# Altium footprint library ICs.PcbLib: 32 footprints (part 1 of 2)
Each footprint in its own frame and in the unit in brackets; x right, y up, seen from the top. Pads: shape width x height; smd on the part's side, far side on the other; paste and mask are expansions set on the pad; w line width, h text height; cw(c..) or ccw(c..) is an arc to the next point about the centre after c.
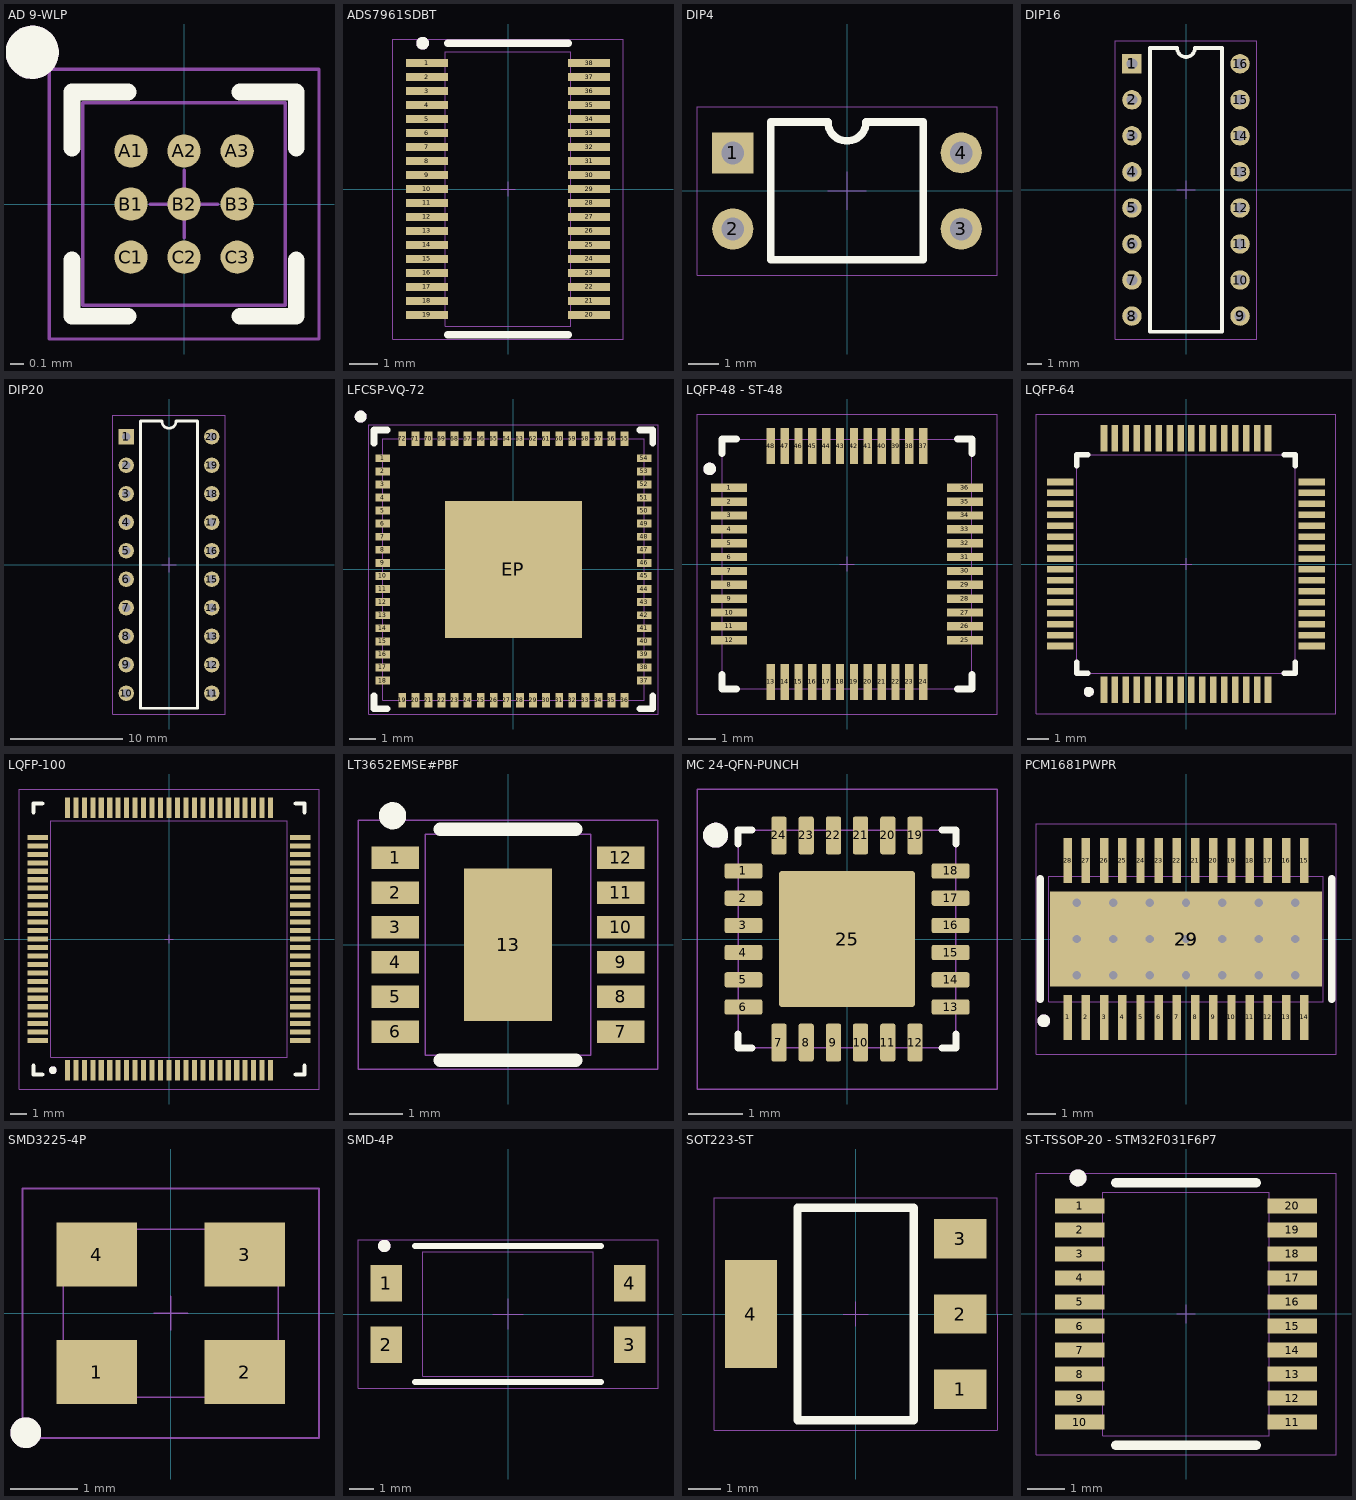
[diagram p0: the footprints below, top view; thin cyan lines are the x and y axes]

## AD 9-WLP [mm]
pads (9):
  round 0.25 smd mask+0.1: A1(-0.4,0.4) A2(0,0.4) A3(0.4,0.4) B1(-0.4,0) B2(0,0) B3(0.4,0) C1(-0.4,-0.4) C2(0,-0.4) C3(0.4,-0.4)
Top Overlay:
  circle w0.2: c-1.143,1.143 r0.1
  lines w0.127: -0.845,-0.423 -0.845,-0.845 -0.423,-0.845 ; -0.845,0.423 -0.845,0.845 -0.423,0.845 ; 0.423,-0.845 0.845,-0.845 0.845,-0.423 ; 0.423,0.845 0.845,0.845 0.845,0.423
Top Courtyard (Mech4):
  lines w0.025: -1.016,-1.016 -1.016,1.016 1.016,1.016 1.016,-1.016 -1.016,-1.016
Top Assembly:
  circle w0.2: c-1.143,1.143 r0.1
  lines w0.025: -0.254,0 0.254,0 ; 0,-0.254 0,0.254 ; -0.762,-0.762 -0.762,0.762 0.762,0.762 0.762,-0.762 -0.762,-0.762
3D body "step_temp.STEP": height 0.69, standoff 0, extent -0.734,-0.724 0.734,0.724

## ADS7961SDBT [mm]
pads (38):
  rect 1.5x0.3 smd mask+0.05: 1(-2.9,4.5) 2(-2.9,4) 3(-2.9,3.5) 4(-2.9,3) 5(-2.9,2.5) 6(-2.9,2) 7(-2.9,1.5) 8(-2.9,1) 9(-2.9,0.5) 10(-2.9,0) 11(-2.9,-0.5) 12(-2.9,-1) 13(-2.9,-1.5) 14(-2.9,-2) 15(-2.9,-2.5) 16(-2.9,-3) 17(-2.9,-3.5) 18(-2.9,-4) 19(-2.9,-4.5) 20(2.9,-4.5) 21(2.9,-4) 22(2.9,-3.5) 23(2.9,-3) 24(2.9,-2.5) 25(2.9,-2) 26(2.9,-1.5) 27(2.9,-1) 28(2.9,-0.5) 29(2.9,0) 30(2.9,0.5) 31(2.9,1) 32(2.9,1.5) 33(2.9,2) 34(2.9,2.5) 35(2.9,3) 36(2.9,3.5) 37(2.9,4) 38(2.9,4.5)
Top Overlay:
  circle w0.254: c-3.048,5.207 r0.102
  lines w0.254: -2.159,-5.207 2.159,-5.207 ; -2.159,5.207 2.159,5.207
Top Courtyard (Mech4):
  lines w0.025: -4.108,-5.358 -4.108,5.358 4.108,5.358 4.108,-5.358 -4.108,-5.358
Top Assembly:
  circle w0.254: c-3.048,5.207 r0.102
  lines w0.025: -0.254,0 0.254,0 ; 0,-0.254 0,0.254 ; -2.25,-4.9 2.25,-4.9 2.25,4.9 -2.25,4.9 -2.25,-4.9
3D body "ADS7961SDBT.STEP": height 1.2, standoff 0, extent -3.2,-4.85 3.2,4.85

## DIP4 [mil]
pads (4):
  rect 54x54 hole 30: 1(-150,50)
  round 54 hole 30: 2(-150,-50) 3(150,-50) 4(150,50)
Top Overlay:
  lines w10: -100,-90.55 -100,90.55 -25,90.55 ccw(c0,90.55) 25,90.55 100,90.55 100,-90.55 -100,-90.55
Top Courtyard (Mech4):
  lines w1: -197,-110.55 197,-110.55 197,110.55 -197,110.55 -197,-110.55
Top Assembly:
  lines w1: -25,0 25,0 ; 0,-25 0,25
3D body "FOD817C.STEP": height 173.23, standoff -129.92, extent -155.12,-90.55 155.12,90.55

## DIP16 [mil]
pads (16):
  rect 54x54 hole 30: 1(-150,350)
  round 54 hole 30: 2(-150,250) 3(-150,150) 4(-150,50) 5(-150,-50) 6(-150,-150) 7(-150,-250) 8(-150,-350) 9(150,-350) 10(150,-250) 11(150,-150) 12(150,-50) 13(150,50) 14(150,150) 15(150,250) 16(150,350)
Top Overlay:
  lines w10: -100,-393.7 100,-393.7 100,393.7 25,393.7 cw(c0,393.7) -25,393.7 -100,393.7 -100,-393.7
Top Courtyard (Mech4):
  lines w1: -197,-413.7 -197,413.7 197,413.7 197,-413.7 -197,-413.7
Top Assembly:
  lines w1: -25,0 25,0 ; 0,-25 0,25
3D body "DIP16.step": height 78.03, standoff -220, extent -153,-393.7 156.84,393.7

## DIP20 [mil]
pads (20):
  rect 54x54 hole 30: 1(-150,450)
  round 54 hole 30: 2(-150,350) 3(-150,250) 4(-150,150) 5(-150,50) 6(-150,-50) 7(-150,-150) 8(-150,-250) 9(-150,-350) 10(-150,-450) 11(150,-450) 12(150,-350) 13(150,-250) 14(150,-150) 15(150,-50) 16(150,50) 17(150,150) 18(150,250) 19(150,350) 20(150,450)
Top Overlay:
  lines w10: -100,-502.94 100,-502.94 100,504.94 25,504.94 cw(c0,504.94) -25,504.94 -100,504.94 -100,-502.94
Top Courtyard (Mech4):
  lines w1: -197,-522.94 -197,524.94 197,524.94 197,-522.94 -197,-522.94
Top Assembly:
  lines w1: -25,0 25,0 ; 0,-25 0,25
3D body "User Library-DIP20-300-metric.step": height 177.17, standoff -137.8, extent -153,-502.94 152.53,504.94

## LFCSP-VQ-72 [mm]
pads (73):
  rect 0.55x0.3 smd mask+0.05: 1(-5,4.25) 2(-5,3.75) 3(-5,3.25) 4(-5,2.75) 5(-5,2.25) 6(-5,1.75) 7(-5,1.25) 8(-5,0.75) 9(-5,0.25) 10(-5,-0.25) 11(-5,-0.75) 12(-5,-1.25) 13(-5,-1.75) 14(-5,-2.25) 15(-5,-2.75) 16(-5,-3.25) 17(-5,-3.75) 18(-5,-4.25) 37(5,-4.25) 38(5,-3.75) 39(5,-3.25) 40(5,-2.75) 41(5,-2.25) 42(5,-1.75) 43(5,-1.25) 44(5,-0.75) 45(5,-0.25) 46(5,0.25) 47(5,0.75) 48(5,1.25) 49(5,1.75) 50(5,2.25) 51(5,2.75) 52(5,3.25) 53(5,3.75) 54(5,4.25)
  rect 0.3x0.55 smd mask+0.05: 19(-4.25,-5) 20(-3.75,-5) 21(-3.25,-5) 22(-2.75,-5) 23(-2.25,-5) 24(-1.75,-5) 25(-1.25,-5) 26(-0.75,-5) 27(-0.25,-5) 28(0.25,-5) 29(0.75,-5) 30(1.25,-5) 31(1.75,-5) 32(2.25,-5) 33(2.75,-5) 34(3.25,-5) 35(3.75,-5) 36(4.25,-5) 55(4.25,5) 56(3.75,5) 57(3.25,5) 58(2.75,5) 59(2.25,5) 60(1.75,5) 61(1.25,5) 62(0.75,5) 63(0.25,5) 64(-0.25,5) 65(-0.75,5) 66(-1.25,5) 67(-1.75,5) 68(-2.25,5) 69(-2.75,5) 70(-3.25,5) 71(-3.75,5) 72(-4.25,5)
  rect 5.25x5.25 smd mask+0.05: EP(0,0)
Top Overlay:
  circle w0.254: c-5.842,5.842 r0.102
  lines w0.254: -5.334,-4.826 -5.334,-5.334 -4.826,-5.334 ; -5.334,4.826 -5.334,5.334 -4.826,5.334 ; 4.826,-5.334 5.334,-5.334 5.334,-4.826 ; 4.826,5.334 5.334,5.334 5.334,4.826
Top Courtyard (Mech4):
  lines w0.025: -5.529,-5.529 -5.529,5.529 5.529,5.529 5.529,-5.529 -5.529,-5.529
Top Assembly:
  circle w0.254: c-5.842,5.842 r0.102
  lines w0.025: -0.254,0 0.254,0 ; 0,-0.254 0,0.254 ; -5,-5 5,-5 5,5 -5,5 -5,-5
3D body "ADAU1452KCPZ.STEP": height 1, standoff 0, extent -5,-5 5,5

## LQFP-48 - ST-48 [mm]
pads (48):
  rect 1.3x0.3 smd mask+0.05: 1(-4.25,2.75) 2(-4.25,2.25) 3(-4.25,1.75) 4(-4.25,1.25) 5(-4.25,0.75) 6(-4.25,0.25) 7(-4.25,-0.25) 8(-4.25,-0.75) 9(-4.25,-1.25) 10(-4.25,-1.75) 11(-4.25,-2.25) 12(-4.25,-2.75) 25(4.25,-2.75) 26(4.25,-2.25) 27(4.25,-1.75) 28(4.25,-1.25) 29(4.25,-0.75) 30(4.25,-0.25) 31(4.25,0.25) 32(4.25,0.75) 33(4.25,1.25) 34(4.25,1.75) 35(4.25,2.25) 36(4.25,2.75)
  rect 0.3x1.3 smd mask+0.05: 13(-2.75,-4.25) 14(-2.25,-4.25) 15(-1.75,-4.25) 16(-1.25,-4.25) 17(-0.75,-4.25) 18(-0.25,-4.25) 19(0.25,-4.25) 20(0.75,-4.25) 21(1.25,-4.25) 22(1.75,-4.25) 23(2.25,-4.25) 24(2.75,-4.25) 37(2.75,4.25) 38(2.25,4.25) 39(1.75,4.25) 40(1.25,4.25) 41(0.75,4.25) 42(0.25,4.25) 43(-0.25,4.25) 44(-0.75,4.25) 45(-1.25,4.25) 46(-1.75,4.25) 47(-2.25,4.25) 48(-2.75,4.25)
Top Overlay:
  circle w0.254: c-4.953,3.429 r0.102
  lines w0.254: -4.5,-3.992 -4.5,-4.5 -3.992,-4.5 ; -4.5,3.992 -4.5,4.5 -3.992,4.5 ; 3.992,-4.5 4.5,-4.5 4.5,-3.992 ; 3.992,4.5 4.5,4.5 4.5,3.992
Top Courtyard (Mech4):
  lines w0.025: -5.408,-5.408 5.408,-5.408 5.408,5.408 -5.408,5.408 -5.408,-5.408
Top Assembly:
  circle w0.254: c-4.953,3.429 r0.102
  lines w0.025: -0.254,0 0.254,0 ; 0,-0.254 0,0.254 ; -4.5,-4.5 4.5,-4.5 4.5,4.5 -4.5,4.5 -4.5,-4.5
3D body "STM32F401CBT6.STEP": height 1.63, standoff 0.03, extent -4.5,-4.5 4.5,4.5

## LQFP-64 [mm]
pads (64):
  rect 0.3x1.2 smd mask+0.05: 1(-3.75,-5.75) 2(-3.25,-5.75) 3(-2.75,-5.75) 4(-2.25,-5.75) 5(-1.75,-5.75) 6(-1.25,-5.75) 7(-0.75,-5.75) 8(-0.25,-5.75) 9(0.25,-5.75) 10(0.75,-5.75) 11(1.25,-5.75) 12(1.75,-5.75) 13(2.25,-5.75) 14(2.75,-5.75) 15(3.25,-5.75) 16(3.75,-5.75) 33(3.75,5.75) 34(3.25,5.75) 35(2.75,5.75) 36(2.25,5.75) 37(1.75,5.75) 38(1.25,5.75) 39(0.75,5.75) 40(0.25,5.75) 41(-0.25,5.75) 42(-0.75,5.75) 43(-1.25,5.75) 44(-1.75,5.75) 45(-2.25,5.75) 46(-2.75,5.75) 47(-3.25,5.75) 48(-3.75,5.75)
  rect 1.2x0.3 smd mask+0.05: 17(5.75,-3.75) 18(5.75,-3.25) 19(5.75,-2.75) 20(5.75,-2.25) 21(5.75,-1.75) 22(5.75,-1.25) 23(5.75,-0.75) 24(5.75,-0.25) 25(5.75,0.25) 26(5.75,0.75) 27(5.75,1.25) 28(5.75,1.75) 29(5.75,2.25) 30(5.75,2.75) 31(5.75,3.25) 32(5.75,3.75) 49(-5.75,3.75) 50(-5.75,3.25) 51(-5.75,2.75) 52(-5.75,2.25) 53(-5.75,1.75) 54(-5.75,1.25) 55(-5.75,0.75) 56(-5.75,0.25) 57(-5.75,-0.25) 58(-5.75,-0.75) 59(-5.75,-1.25) 60(-5.75,-1.75) 61(-5.75,-2.25) 62(-5.75,-2.75) 63(-5.75,-3.25) 64(-5.75,-3.75)
Top Overlay:
  circle w0.254: c-4.445,-5.842 r0.102
  lines w0.254: -5,-4.492 -5,-5 -4.492,-5 ; -5,4.492 -5,5 -4.492,5 ; 4.492,-5 5,-5 5,-4.492 ; 4.492,5 5,5 5,4.492
Top Courtyard (Mech4):
  lines w0.025: -6.858,-6.858 -6.858,6.858 6.858,6.858 6.858,-6.858 -6.858,-6.858
Top Assembly:
  circle w0.254: c-4.445,-5.842 r0.102
  lines w0.025: -0.254,0 0.254,0 ; 0,-0.254 0,0.254 ; -5,-5 -5,5 5,5 5,-5 -5,-5
3D body "STM32F401RBT6.STEP": height 1.62, standoff 0.02, extent -6,-6 6,6

## LQFP-100 [mm]
pads (100):
  rect 0.3x1.2 smd mask+0.05: 1(-6,-7.75) 2(-5.5,-7.75) 3(-5,-7.75) 4(-4.5,-7.75) 5(-4,-7.75) 6(-3.5,-7.75) 7(-3,-7.75) 8(-2.5,-7.75) 9(-2,-7.75) 10(-1.5,-7.75) 11(-1,-7.75) 12(-0.5,-7.75) 13(0,-7.75) 14(0.5,-7.75) 15(1,-7.75) 16(1.5,-7.75) 17(2,-7.75) 18(2.5,-7.75) 19(3,-7.75) 20(3.5,-7.75) 21(4,-7.75) 22(4.5,-7.75) 23(5,-7.75) 24(5.5,-7.75) 25(6,-7.75) 51(6,7.75) 52(5.5,7.75) 53(5,7.75) 54(4.5,7.75) 55(4,7.75) 56(3.5,7.75) 57(3,7.75) 58(2.5,7.75) 59(2,7.75) 60(1.5,7.75) 61(1,7.75) 62(0.5,7.75) 63(0,7.75) 64(-0.5,7.75) 65(-1,7.75) 66(-1.5,7.75) 67(-2,7.75) 68(-2.5,7.75) 69(-3,7.75) 70(-3.5,7.75) 71(-4,7.75) 72(-4.5,7.75) 73(-5,7.75) 74(-5.5,7.75) 75(-6,7.75)
  rect 1.2x0.3 smd mask+0.05: 26(7.75,-6) 27(7.75,-5.5) 28(7.75,-5) 29(7.75,-4.5) 30(7.75,-4) 31(7.75,-3.5) 32(7.75,-3) 33(7.75,-2.5) 34(7.75,-2) 35(7.75,-1.5) 36(7.75,-1) 37(7.75,-0.5) 38(7.75,0) 39(7.75,0.5) 40(7.75,1) 41(7.75,1.5) 42(7.75,2) 43(7.75,2.5) 44(7.75,3) 45(7.75,3.5) 46(7.75,4) 47(7.75,4.5) 48(7.75,5) 49(7.75,5.5) 50(7.75,6) 76(-7.75,6) 77(-7.75,5.5) 78(-7.75,5) 79(-7.75,4.5) 80(-7.75,4) 81(-7.75,3.5) 82(-7.75,3) 83(-7.75,2.5) 84(-7.75,2) 85(-7.75,1.5) 86(-7.75,1) 87(-7.75,0.5) 88(-7.75,0) 89(-7.75,-0.5) 90(-7.75,-1) 91(-7.75,-1.5) 92(-7.75,-2) 93(-7.75,-2.5) 94(-7.75,-3) 95(-7.75,-3.5) 96(-7.75,-4) 97(-7.75,-4.5) 98(-7.75,-5) 99(-7.75,-5.5) 100(-7.75,-6)
Top Overlay:
  circle w0.254: c-6.858,-7.747 r0.102
  lines w0.254: -8,-7.492 -8,-8 -7.492,-8 ; -8,7.492 -8,8 -7.492,8 ; 7.492,-8 8,-8 8,-7.492 ; 7.492,8 8,8 8,7.492
Top Courtyard (Mech4):
  lines w0.025: -8.858,-8.858 8.858,-8.858 8.858,8.858 -8.858,8.858 -8.858,-8.858
Top Assembly:
  circle w0.254: c-6.858,-7.747 r0.102
  lines w0.025: -0.254,0 0.254,0 ; 0,-0.254 0,0.254 ; -6.985,-6.985 6.985,-6.985 6.985,6.985 -6.985,6.985 -6.985,-6.985
3D body "STM32F407VGT6.STEP": height 1.6, standoff 0, extent -8,-8 8,8

## LT3652EMSE#PBF [mm]
height 0.5
pads (13):
  rect 0.889x0.42 smd mask+0.07: 1(-2.107,1.625) 2(-2.107,0.975) 3(-2.107,0.325) 4(-2.107,-0.325) 5(-2.107,-0.975) 6(-2.107,-1.625) 7(2.107,-1.625) 8(2.107,-0.975) 9(2.107,-0.325) 10(2.107,0.325) 11(2.107,0.975) 12(2.107,1.625)
  rect 1.651x2.845 smd mask+0.07: 13(0,0)
Top Overlay:
  circle w0.254: c-2.159,2.413 r0.127
  lines w0.254: -1.27,-2.159 1.27,-2.159 ; -1.27,2.159 1.27,2.159
Top Courtyard (Mech4):
  lines w0.025: -2.806,-2.325 -2.806,2.324 2.806,2.324 2.806,-2.325 -2.806,-2.325
Top Assembly:
  lines w0.025: -0.5,0 0.5,0 ; 0,-0.5 0,0.5 ; -1.551,-2.071 -1.551,2.07 1.551,2.07 1.551,-2.071 -1.551,-2.071
3D body "LT3652EMSE#PBF.STEP": height 1.1, standoff 0, extent -2.45,-2.02 2.45,2.02

## MC 24-QFN-PUNCH [mm]
pads (25):
  rrect25% 0.69x0.28 smd mask+0.05: 1(-1.9,1.25) 2(-1.9,0.75) 3(-1.9,0.25) 4(-1.9,-0.25) 5(-1.9,-0.75) 6(-1.9,-1.25) 13(1.9,-1.25) 14(1.9,-0.75) 15(1.9,-0.25) 16(1.9,0.25) 17(1.9,0.75) 18(1.9,1.25)
  rrect25% 0.28x0.69 smd mask+0.05: 7(-1.25,-1.9) 8(-0.75,-1.9) 9(-0.25,-1.9) 10(0.25,-1.9) 11(0.75,-1.9) 12(1.25,-1.9) 19(1.25,1.9) 20(0.75,1.9) 21(0.25,1.9) 22(-0.25,1.9) 23(-0.75,1.9) 24(-1.25,1.9)
  rrect5% 2.5x2.5 smd mask+0.05: 25(0,0)
Top Overlay:
  circle w0.254: c-2.413,1.905 r0.102
  lines w0.127: -2,-1.746 -2,-2 -1.746,-2 ; -2,1.746 -2,2 -1.746,2 ; 1.746,-2 2,-2 2,-1.746 ; 1.746,2 2,2 2,1.746
Top Courtyard (Mech4):
  lines w0.025: -2.753,-2.753 -2.753,2.753 2.753,2.753 2.753,-2.753 -2.753,-2.753
Top Assembly:
  circle w0.254: c-2.413,1.905 r0.102
  lines w0.025: -2,-2 -2,2 2,2 2,-2 -2,-2
3D body "LAN8720A-CP--3DModel-STEP-56544.STEP": height 1.01, standoff 0.01, extent -2,-2 2,2

## PCM1681PWPR [mm] "PWP(R-PDSO-G28)"
pads (30):
  rect 0.3x1.6 smd mask+0.07: 1(-4.225,-2.8) 2(-3.575,-2.8) 3(-2.925,-2.8) 4(-2.275,-2.8) 5(-1.625,-2.8) 6(-0.975,-2.8) 7(-0.325,-2.8) 8(0.325,-2.8) 9(0.975,-2.8) 10(1.625,-2.8) 11(2.275,-2.8) 12(2.925,-2.8) 13(3.575,-2.8) 14(4.225,-2.8) 15(4.225,2.8) 16(3.575,2.8) 17(2.925,2.8) 18(2.275,2.8) 19(1.625,2.8) 20(0.975,2.8) 21(0.325,2.8) 22(-0.325,2.8) 23(-0.975,2.8) 24(-1.625,2.8) 25(-2.275,2.8) 26(-2.925,2.8) 27(-3.575,2.8) 28(-4.225,2.8)
  rect 9.7x3.4 smd paste-10 mask-2: 29(0,0)
  rect 6.46x2.4 smd paste-10 mask+0.07: 29(0,0)
via -1.3,1.3 diameter 0.6 hole 0.3
via -1.3,-1.3 diameter 0.6 hole 0.3
via -1.3,0 diameter 0.6 hole 0.3
via -2.6,1.3 diameter 0.6 hole 0.3
via -2.6,-1.3 diameter 0.6 hole 0.3
via -2.6,0 diameter 0.6 hole 0.3
via -3.9,1.3 diameter 0.6 hole 0.3
via -3.9,-1.3 diameter 0.6 hole 0.3
via -3.9,0 diameter 0.6 hole 0.3
via 0,-1.3 diameter 0.6 hole 0.3
via 0,1.3 diameter 0.6 hole 0.3
via 1.3,-1.3 diameter 0.6 hole 0.3
via 1.3,1.3 diameter 0.6 hole 0.3
via 1.3,0 diameter 0.6 hole 0.3
via 2.6,-1.3 diameter 0.6 hole 0.3
via 2.6,1.3 diameter 0.6 hole 0.3
via 2.6,0 diameter 0.6 hole 0.3
via 3.9,-1.3 diameter 0.6 hole 0.3
via 3.9,1.3 diameter 0.6 hole 0.3
via 3.9,0 diameter 0.6 hole 0.3
via 0,0 diameter 0.6 hole 0.3
Top Overlay:
  circle w0.254: c-5.08,-2.921 r0.102
  lines w0.254: -5.207,-2.159 -5.207,2.159 ; 5.207,-2.159 5.207,2.159
Top Paste:
  region: -1.5,0.2 -1.5,1.1 -2.4,1.1 -2.4,0.2
  region: -0.2,0.2 -0.2,1.1 -1.1,1.1 -1.1,0.2
  region: -1.5,-1.1 -1.5,-0.2 -2.4,-0.2 -2.4,-1.1
  region: -0.2,-1.1 -0.2,-0.2 -1.1,-0.2 -1.1,-1.1
  region: 1.1,0.2 1.1,1.1 0.2,1.1 0.2,0.2
  region: 2.4,0.2 2.4,1.1 1.5,1.1 1.5,0.2
  region: 1.1,-1.1 1.1,-0.2 0.2,-0.2 0.2,-1.1
  region: 2.4,-1.1 2.4,-0.2 1.5,-0.2 1.5,-1.1
Top Courtyard (Mech4):
  lines w0.025: -5.358,-4.108 5.358,-4.108 5.358,4.108 -5.358,4.108 -5.358,-4.108
Top Assembly:
  circle w0.254: c-5.08,-2.921 r0.102
  lines w0.025: -0.254,0 0.254,0 ; 0,-0.254 0,0.254 ; -4.9,-2.25 -4.9,2.25 4.9,2.25 4.9,-2.25 -4.9,-2.25
3D body "PCM1681PWPR.STEP": height 1.2, standoff 0, extent -4.85,-3.2 4.85,3.2

## SMD3225-4P [mm]
pads (4):
  rect 1.2x0.95 smd mask+0.07: 1(-1.1,-0.875) 2(1.1,-0.875) 3(1.1,0.875) 4(-1.1,0.875)
Top Overlay:
  circle w0.254: c-2.159,-1.778 r0.102
Top Courtyard (Mech4):
  lines w0.025: -2.208,-1.858 2.208,-1.858 2.208,1.858 -2.208,1.858 -2.208,-1.858
Top Assembly:
  circle w0.254: c-2.159,-1.778 r0.102
  lines w0.025: -0.254,0 0.254,0 ; 0,-0.254 0,0.254 ; -1.6,-1.25 1.6,-1.25 1.6,1.25 -1.6,1.25 -1.6,-1.25
3D body "NX3225SA.step": height 0.55, standoff 0, extent -1.6,-1.25 1.6,1.25

## SMD-4P [mm]
pads (4):
  rect 1.3x1.5 smd: 1(-5,1.27) 2(-5,-1.27) 3(5,-1.27) 4(5,1.27)
Top Overlay:
  circle w0.254: c-5.08,2.794 r0.127
  lines w0.254: -3.81,-2.794 3.81,-2.794 ; -3.81,2.794 3.81,2.794
Top Courtyard (Mech4):
  lines w0.025: -6.158,-3.058 -6.158,3.058 6.158,3.058 6.158,-3.058 -6.158,-3.058
Top Assembly:
  circle w0.254: c-5.08,2.794 r0.127
  lines w0.025: -0.635,0 0.635,0 ; 0,-0.635 0,0.635 ; -3.5,-2.55 -3.5,2.55 3.5,2.55 3.5,-2.55 -3.5,-2.55
3D body "TLP521SM_ISO.step": height 4.35, standoff 0, extent -5.232,-2.553 5.232,2.553

## SOT223-ST [mm]
pads (4):
  rect 1.6x1.2 smd: 1(3.2,-2.3) 2(3.2,0) 3(3.2,2.3)
  rect 1.6x3.3 smd: 4(-3.2,0)
Top Overlay:
  lines w0.254: -1.778,-3.25 1.778,-3.25 1.778,3.25 -1.778,3.25 -1.778,-3.25
Top Courtyard (Mech4):
  lines w0.025: -4.318,-3.556 4.318,-3.556 4.318,3.556 -4.318,3.556 -4.318,-3.556
Top Assembly:
  lines w0.025: -0.381,0 0.381,0 ; 0,-0.381 0,0.381 ; -1.778,-3.25 1.778,-3.25 1.778,3.25 -1.778,3.25 -1.778,-3.25
3D body "FZT953.STEP": height 1.65, standoff 0, extent -3.5,-3.25 3.5,3.25

## ST-TSSOP-20 - STM32F031F6P7 [mm]
pads (20):
  rect 1.35x0.4 smd mask+0.05: 1(-2.875,2.925) 2(-2.875,2.275) 3(-2.875,1.625) 4(-2.875,0.975) 5(-2.875,0.325) 6(-2.875,-0.325) 7(-2.875,-0.975) 8(-2.875,-1.625) 9(-2.875,-2.275) 10(-2.875,-2.925) 11(2.875,-2.925) 12(2.875,-2.275) 13(2.875,-1.625) 14(2.875,-0.975) 15(2.875,-0.325) 16(2.875,0.325) 17(2.875,0.975) 18(2.875,1.625) 19(2.875,2.275) 20(2.875,2.925)
Top Overlay:
  circle w0.254: c-2.921,3.683 r0.102
  lines w0.254: -1.905,-3.556 1.905,-3.556 ; -1.905,3.556 1.905,3.556
Top Courtyard (Mech4):
  lines w0.025: -4.058,-3.808 -4.058,3.808 4.058,3.808 4.058,-3.808 -4.058,-3.808
Top Assembly:
  circle w0.254: c-2.921,3.683 r0.102
  lines w0.025: -0.254,0 0.254,0 ; 0,-0.254 0,0.254 ; -2.25,-3.3 2.25,-3.3 2.25,3.3 -2.25,3.3 -2.25,-3.3
3D body "STM32F031F6P7.STEP": height 1.23, standoff 0.03, extent -3.2,-3.25 3.2,3.25